# Altium schematic symbol library MotorDriverSchem.SchLib: 1 symbol
Pins are listed as number, name and electrical type; pins without a type are passive.

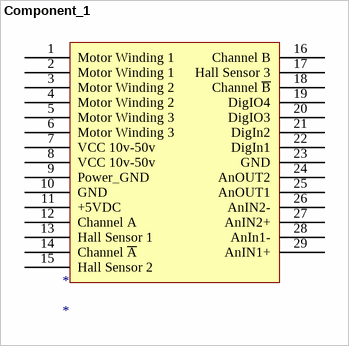
[diagram p0: symbol Component_1]

## Component_1
designator *
footprint PCBComponent_1
pins: 1 Motor Winding 1, 2 Motor Winding 1, 3 Motor Winding 2, 4 Motor Winding 2, 5 Motor Winding 3, 6 Motor Winding 3, 7 VCC 10v-50v, 8 VCC 10v-50v, 9 Power_GND, 10 GND, 11 +5VDC, 12 Channel A, 13 Hall Sensor 1, 14 Channel ~{A}, 15 Hall Sensor 2, 16 Channel B, 17 Hall Sensor 3, 18 Channel ~{B}, 19 DigIO4, 20 DigIO3, 21 DigIn2, 22 DigIn1, 23 GND, 24 AnOUT2, 25 AnOUT1, 26 AnIN2-, 27 AnIN2+, 28 AnIn1-, 29 AnIN1+